# Altium footprint library THD Amplifiers.PcbLib: 3 footprints
Each footprint in its own frame and in the unit in brackets; x right, y up, seen from the top. Pads: shape width x height; smd on the part's side, far side on the other; paste and mask are expansions set on the pad; w line width, h text height; cw(c..) or ccw(c..) is an arc to the next point about the centre after c.
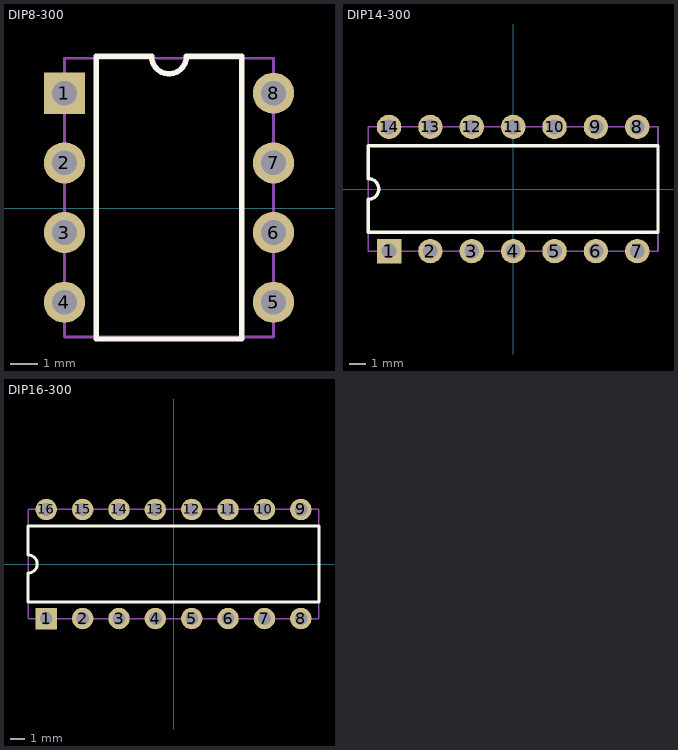
[diagram p0: the footprints below, top view; thin cyan lines are the x and y axes]

## DIP8-300 [mm] "DIP; 8 Leads; Row Spacing 7.62 mm; Pitch 2.54 mm"
height 5.33
pads (8):
  rect 1.5x1.5 hole 0.9: 1(-11.303,4.191)
  round 1.5 hole 0.9: 2(-11.303,1.651) 3(-11.303,-0.889) 4(-11.303,-3.429) 5(-3.683,-3.429) 6(-3.683,-0.889) 7(-3.683,1.651) 8(-3.683,4.191)
Top Overlay:
  lines w0.2: -10.143,-4.769 -4.843,-4.769 -4.843,5.531 -6.858,5.531 cw(c-7.493,5.531) -8.128,5.531 -10.143,5.531 -10.143,-4.769
Mechanical 13:
  lines w0.1: -11.303,-4.699 -11.303,5.461 -3.683,5.461 -3.683,-4.699 -11.303,-4.699
3D body "DIP8-300.STEP": height 4.19, standoff -2.67, extent -11.43,-5.207 -3.556,6.223

## DIP14-300 [mm] "DIP, Molded; 16 Leads; Row Spacing 7.62 mm; Pitch 2.54 mm"
height 4.83
pads (14):
  rect 1.5x1.5 hole 0.9: 1(-7.62,-3.81)
  round 1.5 hole 0.9: 2(-5.08,-3.81) 3(-2.54,-3.81) 4(0,-3.81) 5(2.54,-3.81) 6(5.08,-3.81) 7(7.62,-3.81) 8(7.62,3.81) 9(5.08,3.81) 10(2.54,3.81) 11(0,3.81) 12(-2.54,3.81) 13(-5.08,3.81) 14(-7.62,3.81)
Top Overlay:
  lines w0.2: -8.89,-2.65 -8.89,-0.635 ccw(c-8.89,0) -8.89,0.635 -8.89,2.65 8.89,2.65 8.89,-2.65 -8.89,-2.65
Mechanical 13:
  lines w0.1: -8.89,-3.81 8.89,-3.81 8.89,3.81 -8.89,3.81 -8.89,-3.81
3D body "DIP14-300.STEP": height 4.05, standoff -2.93, extent -9.525,-4 9.525,4

## DIP16-300 [mm] "DIP, Molded; 16 Leads; Row Spacing 7.62 mm; Pitch 2.54 mm"
height 4.83
pads (16):
  rect 1.5x1.5 hole 0.9: 1(-8.89,-3.81)
  round 1.5 hole 0.9: 2(-6.35,-3.81) 3(-3.81,-3.81) 4(-1.27,-3.81) 5(1.27,-3.81) 6(3.81,-3.81) 7(6.35,-3.81) 8(8.89,-3.81) 9(8.89,3.81) 10(6.35,3.81) 11(3.81,3.81) 12(1.27,3.81) 13(-1.27,3.81) 14(-3.81,3.81) 15(-6.35,3.81) 16(-8.89,3.81)
Top Overlay:
  lines w0.2: -10.16,-2.65 -10.16,-0.635 ccw(c-10.16,0) -10.16,0.635 -10.16,2.65 10.16,2.65 10.16,-2.65 -10.16,-2.65
Mechanical 13:
  lines w0.1: -10.16,-3.81 10.16,-3.81 10.16,3.81 -10.16,3.81 -10.16,-3.81
3D body "DIP16-300.STEP": height 5.35, standoff -3.05, extent -10.221,-3.935 9.779,3.935